# EAGLE library part PIN08 (library C8051F300)
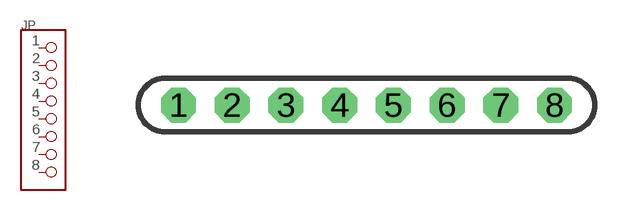
[diagram p26: symbol with the pads of PIN08; footprint PIN08]

Designator prefix JP

## PIN08  [PIN08]
1  1
2  2
3  3
4  4
5  5
6  6
7  7
8  8

## Footprint PIN08 (pad centres in mm)
drill 1.1 octagon: 1 0,0; 2 2.54,0; 3 5.08,0; 4 7.62,0; 5 10.16,0; 6 12.7,0; 7 15.24,0; 8 17.78,0